# Altium footprint library Kursovaya.PcbLib: 28 footprints (part 1 of 2)
Each footprint in its own frame and in the unit in brackets; x right, y up, seen from the top. Pads: shape width x height; smd on the part's side, far side on the other; paste and mask are expansions set on the pad; w line width, h text height; cw(c..) or ccw(c..) is an arc to the next point about the centre after c.
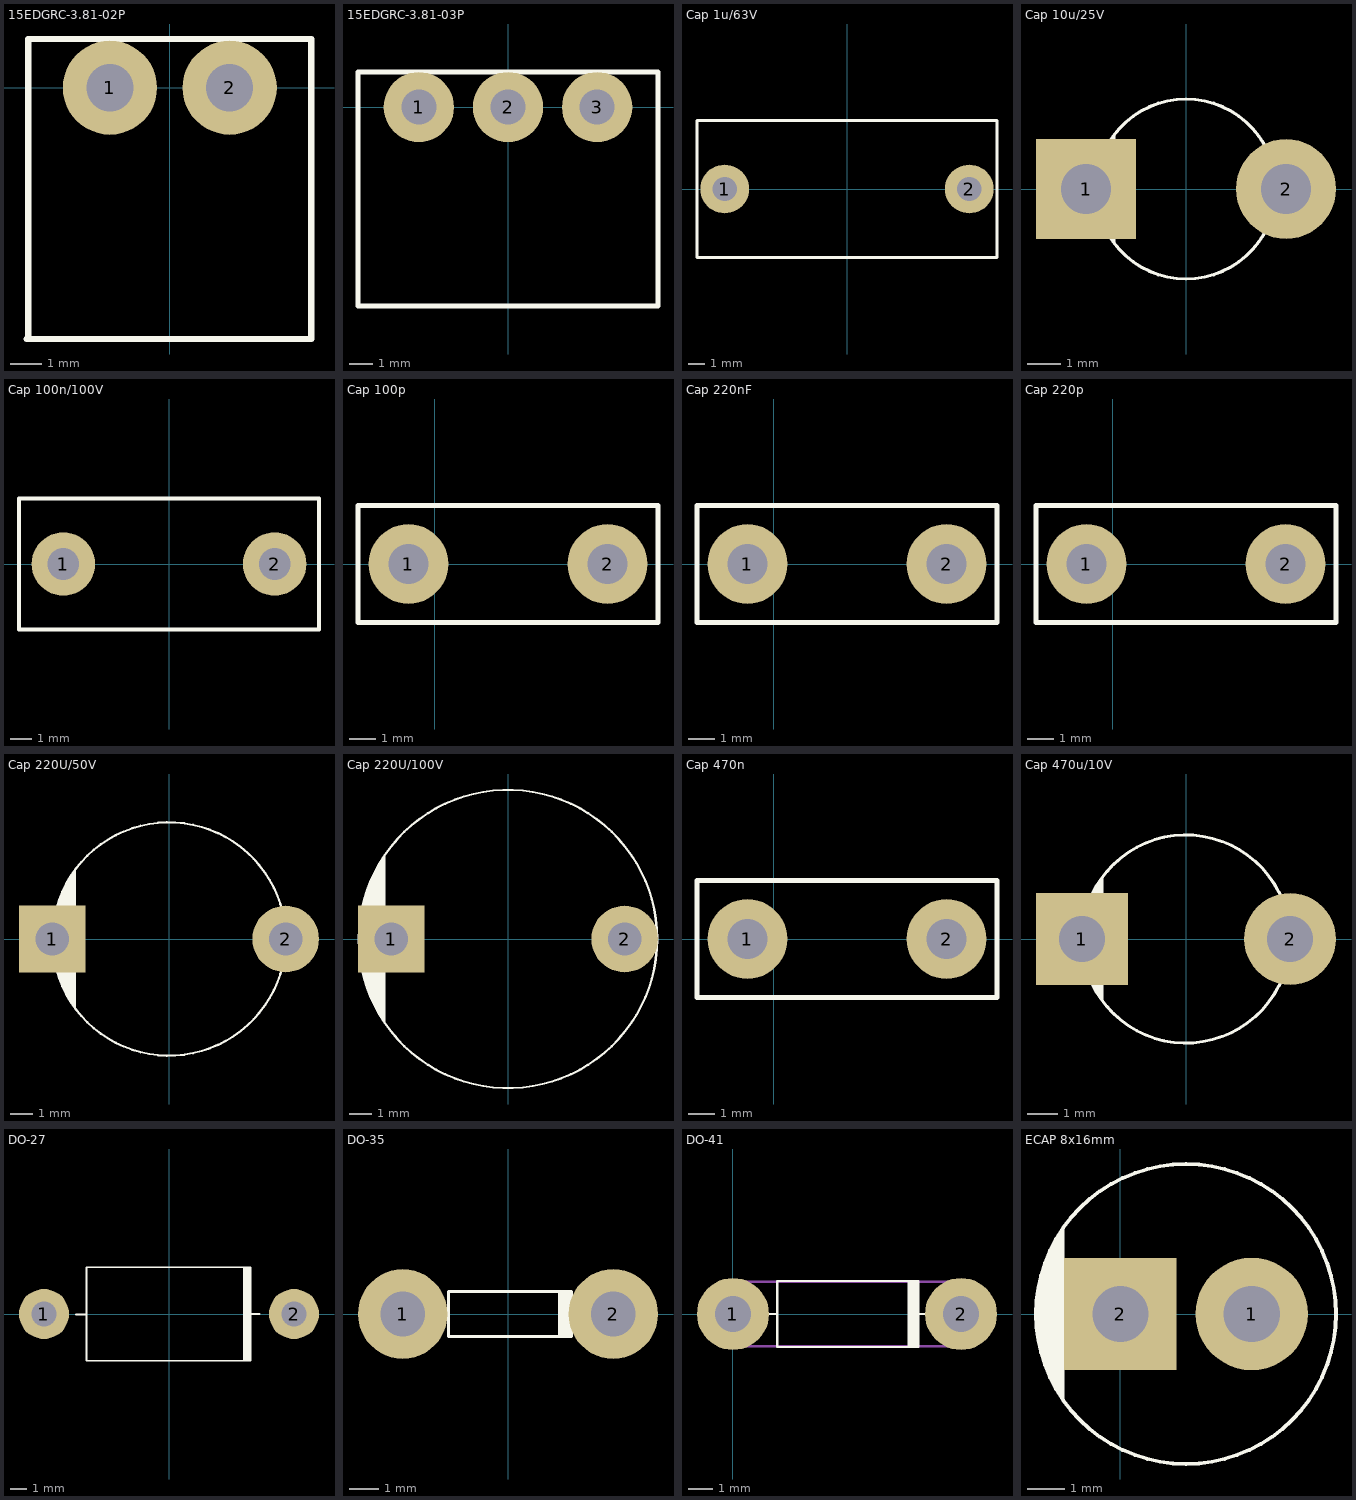
[diagram p0: the footprints below, top view; thin cyan lines are the x and y axes]

## 15EDGRC-3.81-02P [mm] "PCB Header, 8A, 160 V, Pitch: 3.81mm, 2 Positions, MCV Serie"
height 9.2
pads (2):
  round 3 hole 1.5: 1(-1.905,0) 2(1.905,0)
Top Overlay:
  lines w0.2: -4.558,-8 -2.305,-8 2.2,-8 4.453,-8 ; -4.505,-8 -4.505,1.55 ; -4.504,1.55 4.506,1.55 ; 4.505,-8 4.505,1.55
3D body "15EDGRC-3.81-02P-14-00A(H).stp": height 7.29, standoff -3.35, extent -4.205,-8 4.205,1.2

## 15EDGRC-3.81-03P [mm] "PCB Header, 8A, 160 V, Pitch: 3.81mm, 3 Positions, MCV Serie"
height 9.2
pads (3):
  round 3 hole 1.5: 1(-3.81,0) 2(0,0) 3(3.81,0)
Top Overlay:
  lines w0.2: -6.41,-8.5 6.41,-8.5 6.41,1.5 -6.41,1.5 -6.41,-8.5
3D body "15EDGRC-3.81-03P-14-00A(H).stp": height 7.29, standoff -3.35, extent -6.11,-8 6.11,1.2

## Cap 1u/63V [mm]
pads (2):
  round 3 hole 1.5: 1(-7.5,0) 2(7.5,0)
Top Overlay:
  lines w0.2: -9.2,-4.2 9.2,-4.2 9.2,4.2 -9.2,4.2 -9.2,-4.2
3D body: height 11, standoff -4, extent 7.013,-0.525 8.012,0.475
3D body: height 11, standoff -4, extent -8,-0.5 -7,0.5
3D body: height 15, standoff 6, extent -9,-4 9,4

## Cap 10u/25V [mm]
pads (2):
  rect 3x3 hole 1.5: 1(-3,0)
  round 3 hole 1.5: 2(3,0)
Top Overlay:
  circle w0.1: c0,0 r2.7
  region: -2.127,1.7 -2.127,-1.7 -2.259,-1.515 -2.461,-1.108 -2.599,-0.676 -2.668,-0.227 -2.668,0.227 -2.599,0.676 -2.461,1.108 -2.259,1.515
3D body "cappr-2_5.5h12.step": height 15, standoff 0, extent -2.75,-2.748 2.75,2.747

## Cap 100n/100V [mm]
pads (2):
  round 3 hole 1.5: 1(-5,0) 2(5,0)
Top Overlay:
  lines w0.2: -7.1,-3.1 -7.1,3.1 7.1,3.1 7.1,-3.1 -7.1,-3.1
3D body: height 12, standoff 2, extent -6.75,-2.75 6.75,2.75
3D body: height 3, standoff -3, extent -5.5,-0.5 -4.5,0.5
3D body: height 3, standoff -3, extent 4.5,-0.5 5.5,0.5

## Cap 100p [mm]
pads (2):
  round 3 hole 1.5: 1(-1,0) 2(6.5,0)
Top Overlay:
  lines w0.2: -2.9,-2.2 -2.9,2.2 8.4,2.2 8.4,-2.2 -2.9,-2.2
3D body "K10-17-0805.stp": height 6.2, standoff -3, extent 0,-1.906 5.5,1.906

## Cap 220nF [mm]
pads (2):
  round 3 hole 1.5: 1(-1,0) 2(6.5,0)
Top Overlay:
  lines w0.2: -2.9,-2.2 -2.9,2.2 8.4,2.2 8.4,-2.2 -2.9,-2.2
3D body "K10-17-0805.stp": height 5.2, standoff -4, extent 0,-1.906 5.5,1.906

## Cap 220p [mm]
pads (2):
  round 3 hole 1.5: 1(-1,0) 2(6.5,0)
Top Overlay:
  lines w0.2: -2.9,-2.2 -2.9,2.2 8.4,2.2 8.4,-2.2 -2.9,-2.2
3D body "K10-17-0805.stp": height 6.2, standoff -3, extent 0,-1.906 5.5,1.906

## Cap 220U/50V [mm]
pads (2):
  rect 3x3 hole 1.5: 1(-5.25,0)
  round 3 hole 1.5: 2(5.25,0)
Top Overlay:
  circle w0.1: c0,0 r5.25
  region: -4.2,3.2 -4.2,-3.2 -4.365,-2.968 -4.644,-2.472 -4.871,-1.95 -5.044,-1.408 -5.16,-0.851 -5.218,-0.285 -5.218,0.285 -5.16,0.851 -5.044,1.408 -4.871,1.95 -4.644,2.472 -4.365,2.968
3D body "cappr-5_10.5h14.step": height 16, standoff -1, extent -5.25,-5.25 5.25,5.25

## Cap 220U/100V [mm]
pads (2):
  rect 3x3 hole 1.5: 1(-5.25,0)
  round 3 hole 1.5: 2(5.25,0)
Top Overlay:
  circle w0.1: c0,0 r6.712
  region: -5.523,3.8 -5.523,-3.8 -5.718,-3.524 -6.05,-2.935 -6.32,-2.316 -6.525,-1.672 -6.663,-1.01 -6.732,-0.338 -6.732,0.338 -6.663,1.01 -6.525,1.672 -6.32,2.316 -6.05,2.935 -5.718,3.524
3D body "cappr-5_13.5h27.step": height 29, standoff -1, extent -6.75,-6.75 6.75,6.75

## Cap 470n [mm]
pads (2):
  round 3 hole 1.5: 1(-1,0) 2(6.5,0)
Top Overlay:
  lines w0.2: -2.9,-2.2 -2.9,2.2 8.4,2.2 8.4,-2.2 -2.9,-2.2
3D body "K10-17-0805.stp": height 6.2, standoff -3, extent 0,-1.906 5.5,1.906

## Cap 470u/10V [mm]
pads (2):
  rect 3x3 hole 1.5: 1(-3.4,0)
  round 3 hole 1.5: 2(3.4,0)
Top Overlay:
  circle w0.1: c0,0 r3.4
  region: -2.7,2.1 -2.7,-2.1 -2.862,-1.871 -3.112,-1.369 -3.282,-0.835 -3.368,-0.28 -3.368,0.28 -3.282,0.835 -3.112,1.369 -2.862,1.871
3D body "cappr-2.5_6.8h12.step": height 15, standoff 0, extent -3.4,-3.4 3.401,3.397

## DO-27 [mm]
pads (2):
  round 3 hole 1.5: 1(-7.5,0) 2(7.5,0)
Top Overlay:
  rectangle: 4.425,-2.8 4.875,2.775
  lines w0.1: -5.6,-0.025 -4.95,-0.025 ; 4.9,0 5.45,0 ; -4.95,-2.8 -4.95,2.8 4.9,2.8 4.9,-2.8 -4.95,-2.8
3D body "DO-27-lay.STP": height 5.59, standoff -2.5, extent -8.15,-2.805 8.15,2.805

## DO-35 [mm]
pads (2):
  round 3 hole 1.5: 1(-3.525,0) 2(3.525,0)
Top Overlay:
  rectangle: 1.675,-0.8 2.125,0.75
  lines w0.1: -2.65,0 -2,0 ; 2.125,0 2.675,0 ; -2,-0.75 2.125,-0.75 2.125,0.75 -2,0.75 -2,-0.75
3D body "DO35_7mm-pitch.step": height 3.51, standoff -1.5, extent -3.725,-0.75 3.723,0.759

## DO-41 [mm]
pads (2):
  round 3 hole 1.5: 1(0,0) 2(9.5,0)
Top Overlay:
  rectangle: 7.275,-1.375 7.725,1.375
  lines w0.1: 1.2,0 1.85,0 ; 7.75,0 8.3,0 ; 1.85,-1.375 7.725,-1.375 7.725,1.375 1.85,1.375 1.85,-1.375
Mechanical 13:
  lines w0.1: -0.4,-1.35 9.95,-1.35 9.95,1.35 -0.4,1.35 -0.4,-1.35
3D body "User Library-DO-41_375mil.STEP": height 2.83, standoff -2.52, extent -0.392,-1.35 9.992,1.35

## ECAP 8x16mm [mm]
pads (2):
  round 3 hole 1.5: 1(3.5,0)
  rect 3x3 hole 1.5: 2(0,0)
Top Overlay:
  circle w0.1: c1.75,0 r4
  region: -1.5,2.325 -1.5,-2.325 -1.517,-2.309 -1.695,-2.057 -1.969,-1.504 -2.156,-0.916 -2.25,-0.306 -2.25,0.311 -2.155,0.921 -1.967,1.509 -1.692,2.061 -1.513,2.313
3D body "User Library-Cap-EL(8x16-3_5).step": height 16.1, standoff -3.2, extent -2.25,-4 5.752,4